# Altium footprint library CON_JST_.PcbLib: 30 footprints (part 2 of 2)
Each footprint in its own frame and in the unit in brackets; x right, y up, seen from the top. Pads: shape width x height; smd on the part's side, far side on the other; paste and mask are expansions set on the pad; w line width, h text height; cw(c..) or ccw(c..) is an arc to the next point about the centre after c.
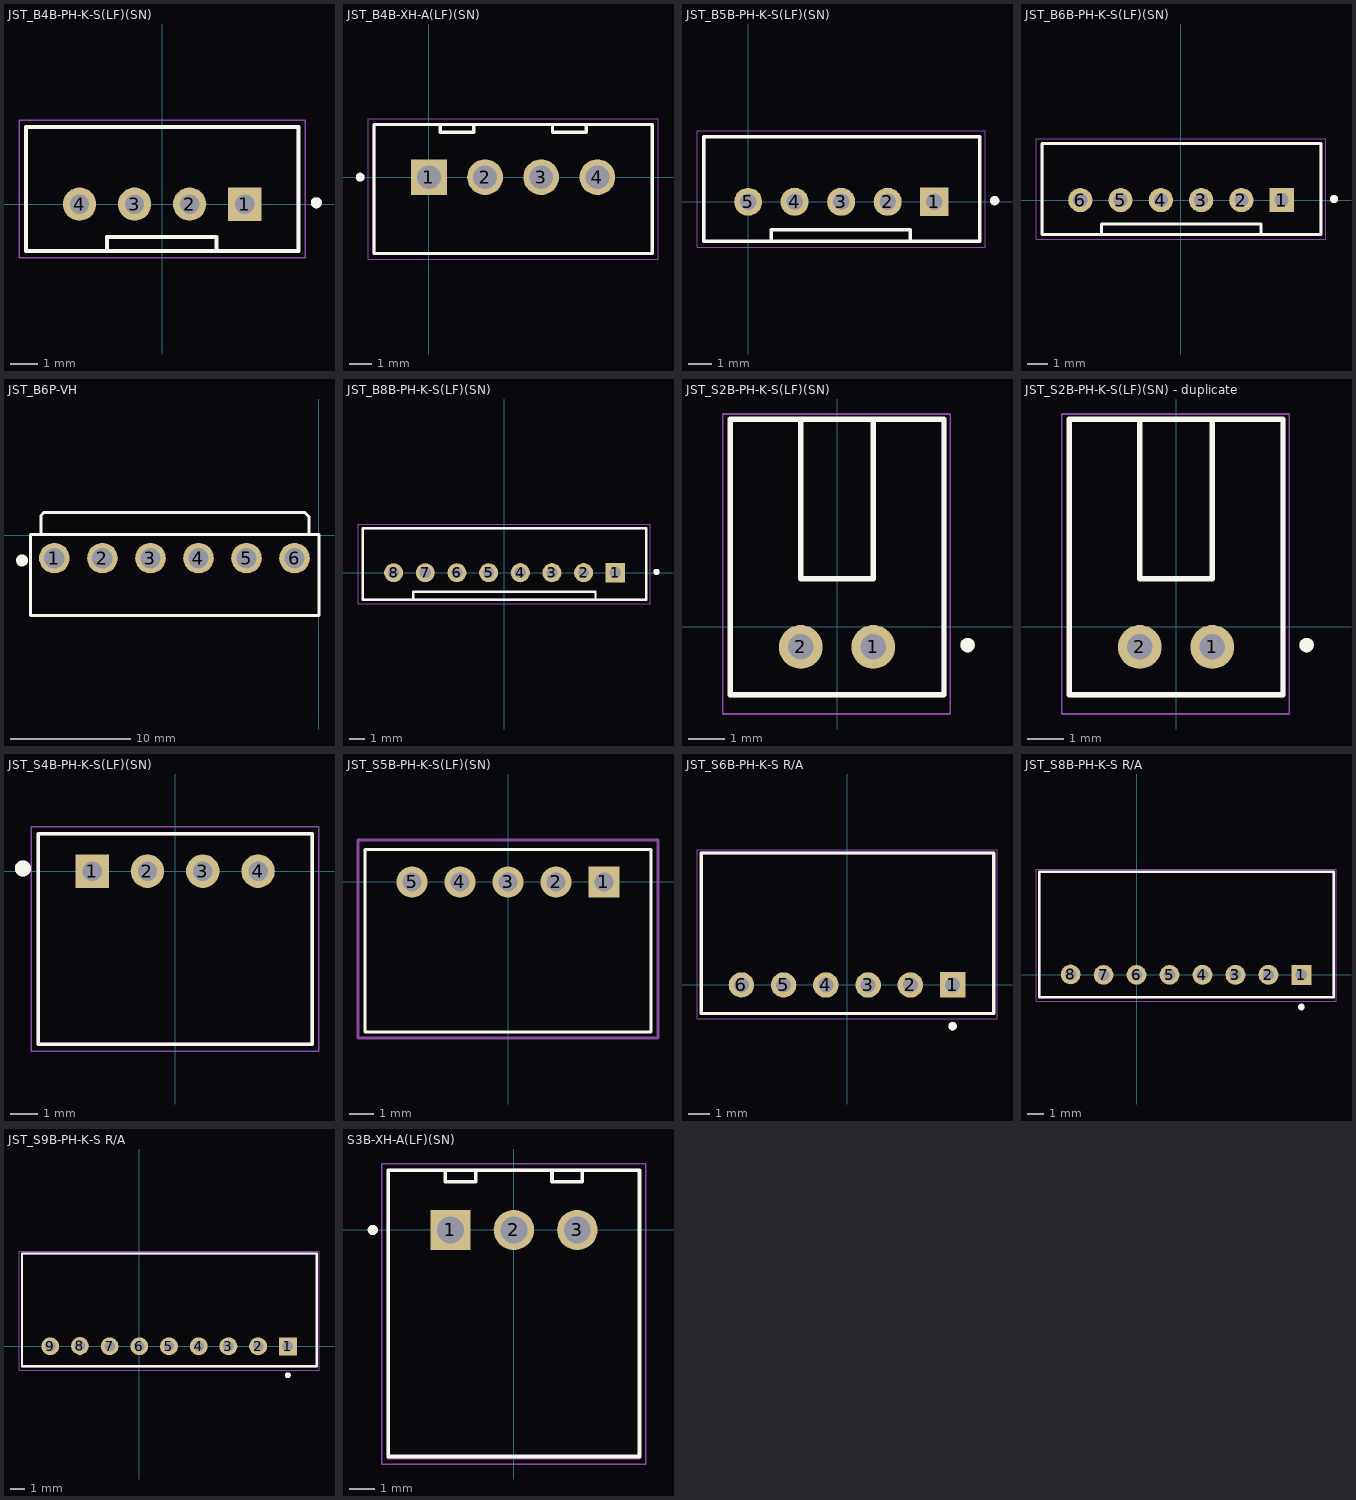
[diagram p1: the footprints below, top view; thin cyan lines are the x and y axes]

## JST_B4B-PH-K-S(LF)(SN) [mm]
pads (4):
  rect 1.208x1.208 hole 0.7: 1(3,0)
  round 1.208 hole 0.7: 2(1,0) 3(-1,0) 4(-3,0)
Top Overlay:
  circle w0.2: c5.6,0.05 r0.1
  lines w0.15: -2,-1.7 -2,-1.2 1.975,-1.2 1.975,-1.7 ; -4.95,-1.7 4.95,-1.7 4.95,2.8 -4.95,2.8 -4.95,-1.7
Mechanical 4:
  circle w0.2: c5.6,0.05 r0.1
  circle w0.2: c5.6,0.05 r0.1
  lines w0.127: -4.95,-1.7 -4.95,2.8 ; -4.95,-1.7 4.95,-1.7 ; -4.95,-1.7 -4.95,2.8 ; -4.95,-1.7 4.95,-1.7 ; -4.95,2.8 4.95,2.8 ; -4.95,2.8 4.95,2.8 ; 4.95,-1.7 4.95,2.8 ; 4.95,-1.7 4.95,2.8
Mechanical 16:
  lines w0.05: -5.2,-1.95 -5.2,3.05 5.2,3.05 5.2,-1.95 -5.2,-1.95
3D body: height 5, standoff -3, extent -3.297,-0.299 -2.7,0.3
3D body: height 5, standoff -3, extent 2.703,-0.299 3.3,0.3
3D body: height 5, standoff -3, extent 0.703,-0.299 1.3,0.3
3D body: height 5, standoff -3, extent -1.297,-0.299 -0.7,0.3
3D body: height 1.5, standoff 0.05, extent -4.9,-1.7 4.9,2.8
3D body: height 6, standoff 1.5, extent 4.7,-1.7 4.9,2.8
3D body: height 6, standoff 1.5, extent -4.9,2.6 4.9,2.8
3D body: height 6, standoff 1.5, extent 2,-1.7 4.9,-1.5
3D body: height 6, standoff 1.5, extent -4.9,-1.7 -2,-1.5
3D body: height 6, standoff 1.5, extent -4.9,-1.7 -4.7,2.8

## JST_B4B-XH-A(LF)(SN) [mm]
pads (4):
  rect 1.59x1.59 hole 1.06: 1(0,0)
  round 1.59 hole 1.06: 2(2.5,0) 3(5,0) 4(7.5,0)
Top Overlay:
  circle w0.2: c-3.06,0 r0.1
  lines w0.15: 0.5,2.35 0.5,2 2,2 2,2.35 ; 5.5,2.35 5.5,2 7,2 7,2.35 ; -2.45,-3.4 9.95,-3.4 9.95,2.35 -2.45,2.35 -2.45,-3.4
Mechanical 4:
  lines w0.127: -2.45,-3.4 9.95,-3.4 ; -2.45,-3.4 -2.45,2.35 ; -2.45,-3.4 9.95,-3.4 ; -2.45,-3.4 -2.45,2.35 ; -2.45,2.35 9.95,2.35 ; -2.45,2.35 9.95,2.35 ; 9.95,-3.4 9.95,2.35 ; 9.95,-3.4 9.95,2.35
Mechanical 16:
  lines w0.05: -2.7,-3.65 10.2,-3.65 10.2,2.6 -2.7,2.6 -2.7,-3.65
3D body: height 6, standoff 1.5, extent 9.6,-3.4 9.9,2.3
3D body: height 6, standoff 1.5, extent -2.4,-3.4 -2,2.3
3D body: height 6, standoff 1.5, extent -2.4,-3.4 9.9,-3
3D body: height 6, standoff 1.5, extent 7,2 9.9,2.3
3D body: height 6, standoff 1.5, extent -2.4,2 0.5,2.3
3D body: height 1.5, standoff 0.05, extent -2.4,-3.4 9.9,2.3
3D body: height 5, standoff -3, extent 7.004,-0.5 8,0.498
3D body: height 5, standoff -3, extent 4.504,-0.5 5.5,0.498
3D body: height 5, standoff -3, extent 2.004,-0.5 3,0.498
3D body: height 5, standoff -3, extent -0.496,-0.499 0.5,0.499
3D body: height 6, standoff 1.5, extent 2,2 5.5,2.3

## JST_B5B-PH-K-S(LF)(SN) [mm]
pads (5):
  rect 1.208x1.208 hole 0.7: 1(8,0)
  round 1.208 hole 0.7: 2(6,0) 3(4,0) 4(2,0)
  round 1.2 hole 0.7: 5(0,0)
Top Overlay:
  circle w0.2: c10.6,0.05 r0.1
  lines w0.15: 1,-1.7 1,-1.2 6.975,-1.2 6.975,-1.7 ; -1.9,-1.7 9.95,-1.7 9.95,2.8 -1.9,2.8 -1.9,-1.7
Mechanical 4:
  circle w0.2: c10.6,0.05 r0.1
  circle w0.2: c10.6,0.05 r0.1
  lines w0.127: -1.9,-1.7 -1.9,2.8 ; -1.9,-1.7 9.95,-1.7 ; -1.9,-1.7 -1.9,2.8 ; -1.9,-1.7 9.95,-1.7 ; -1.9,2.8 9.95,2.8 ; -1.9,2.8 9.95,2.8 ; 9.95,-1.7 9.95,2.8 ; 9.95,-1.7 9.95,2.8
Mechanical 16:
  lines w0.05: -2.2,-1.95 -2.2,3.05 10.2,3.05 10.2,-1.95 -2.2,-1.95
3D body: height 5, standoff -3, extent -0.298,-0.299 0.3,0.3
3D body: height 6, standoff 1.5, extent -1.9,-1.7 -1.7,2.8
3D body: height 5, standoff -3, extent 1.702,-0.299 2.3,0.3
3D body: height 5, standoff -3, extent 7.702,-0.299 8.3,0.3
3D body: height 5, standoff -3, extent 5.703,-0.299 6.3,0.3
3D body: height 5, standoff -3, extent 3.702,-0.299 4.3,0.3
3D body: height 1.5, standoff 0.05, extent -1.9,-1.7 9.9,2.8
3D body: height 6, standoff 1.5, extent 9.7,-1.7 9.9,2.8
3D body: height 6, standoff 1.5, extent -1.9,2.6 9.9,2.8
3D body: height 6, standoff 1.5, extent 7,-1.7 9.9,-1.5
3D body: height 6, standoff 1.5, extent -1.9,-1.7 1,-1.5

## JST_B6B-PH-K-S(LF)(SN) [mm]
pads (6):
  rect 1.208x1.208 hole 0.7: 1(5,0)
  round 1.208 hole 0.7: 2(3,0) 3(1,0) 4(-1,0)
  round 1.2 hole 0.7: 5(-3,0) 6(-5,0)
Top Overlay:
  circle w0.2: c7.6,0.05 r0.1
  lines w0.15: -3.95,-1.7 -3.95,-1.2 3.975,-1.2 3.975,-1.7 ; -6.9,-1.7 -6.9,2.8 6.95,2.8 6.95,-1.7 -6.9,-1.7
Mechanical 4:
  circle w0.2: c7.6,0.05 r0.1
  circle w0.2: c7.6,0.05 r0.1
  lines w0.127: -6.9,-1.7 6.95,-1.7 ; -6.9,-1.7 -6.9,2.8 ; -6.9,-1.7 6.95,-1.7 ; -6.9,-1.7 -6.9,2.8 ; -6.9,2.8 6.95,2.8 ; -6.9,2.8 6.95,2.8 ; 6.95,-1.7 6.95,2.8 ; 6.95,-1.7 6.95,2.8
Mechanical 16:
  lines w0.05: -7.2,-1.95 7.2,-1.95 7.2,3.05 -7.2,3.05 -7.2,-1.95
3D body: height 6, standoff 1.5, extent -6.85,-1.7 -3.95,-1.5
3D body: height 6, standoff 1.5, extent 4,-1.7 6.9,-1.5
3D body: height 6, standoff 1.5, extent -6.9,2.6 6.9,2.8
3D body: height 6, standoff 1.5, extent 6.7,-1.7 6.9,2.8
3D body: height 1.5, standoff 0.05, extent -6.9,-1.7 6.9,2.8
3D body: height 5, standoff -3, extent 0.703,-0.299 1.3,0.3
3D body: height 5, standoff -3, extent 2.703,-0.299 3.3,0.3
3D body: height 5, standoff -3, extent 4.703,-0.299 5.3,0.3
3D body: height 5, standoff -3, extent -1.297,-0.299 -0.7,0.3
3D body: height 6, standoff 1.5, extent -6.9,-1.7 -6.7,2.8
3D body: height 5, standoff -3, extent -3.297,-0.299 -2.7,0.3
3D body: height 5, standoff -3, extent -5.297,-0.299 -4.7,0.3

## JST_B6P-VH [mm]
pads (6):
  round 2.55 hole 1.7: 1(-22.007,-1.905) 2(-18.007,-1.905) 3(-14.007,-1.905) 4(-10.007,-1.905) 5(-6.007,-1.905) 6(-2.007,-1.905)
Top Overlay:
  circle w0.5: c-24.707,-2.105 r0.25
  lines w0.25: -23.132,0.12 -23.132,1.645 -22.872,1.905 -1.168,1.905 -0.823,1.56 -0.823,0.07 ; -13.007,0.07 -12.982,0.045 ; -24.007,-6.705 0.03,-6.705 0.03,0.045 -24.007,0.045 -24.007,-6.705
3D body "User Library-user_library-b6p-vh_asm.STEP": height 10.9, standoff -3.7, extent -23.678,-6.553 -0.248,1.947

## JST_B8B-PH-K-S(LF)(SN) [mm] "Connector Header Through Hole 8 position 0.079\" (2.00mm)"
height 6
pads (8):
  rect 1.208x1.208 hole 0.7: 1(7,0)
  round 1.208 hole 0.7: 2(5,0) 3(3,0) 4(1,0)
  round 1.2 hole 0.7: 5(-1,0) 6(-3,0) 7(-5,0) 8(-7,0)
Top Overlay:
  circle w0.2: c9.6,0.05 r0.1
  lines w0.15: -5.75,-1.7 -5.75,-1.2 5.75,-1.2 5.75,-1.7 ; -8.95,-1.7 -8.95,2.8 8.95,2.8 8.95,-1.7 -8.95,-1.7
Mechanical 4:
  circle w0.2: c9.6,0.05 r0.1
  circle w0.2: c9.6,0.05 r0.1
  lines w0.127: 8.95,-1.7 -8.9,-1.7 8.95,-1.7 ; 8.95,-1.7 8.95,2.8 ; 8.95,-1.7 8.95,2.8 ; 8.95,2.8 -8.9,2.8 8.95,2.8
Mechanical 16:
  lines w0.05: -9.25,-1.95 9.2,-1.95 9.2,3.05 -9.25,3.05 -9.25,-1.95
3D body "User Library-b8b-ph-ks.STEP": height 6.05, standoff -2.95, extent -8.95,-1.75 8.95,2.75

## JST_S2B-PH-K-S(LF)(SN) [mm] "Connector Header Through Hole, Right Angle 2 position 0.079\" (2.00mm)"
height 4.8
pads (2):
  round 1.208 hole 0.7: 1(1,-0.55) 2(-1,-0.55)
Top Overlay:
  circle w0.2: c3.6,-0.5 r0.1
  lines w0.15: -1,5.725 -1,1.325 1,1.325 1,5.725 ; -2.95,-1.875 2.95,-1.875 2.95,5.725 -2.95,5.725 -2.95,-1.875
Mechanical 4:
  circle w0.2: c3.6,-0.5 r0.1
  circle w0.2: c3.6,-0.5 r0.1
  lines w0.127: -2.95,-1.875 -2.95,5.725 ; -2.95,-1.875 2.95,-1.875 ; -2.95,-1.875 -2.95,5.725 ; -2.95,-1.875 2.95,-1.875 ; -2.95,5.725 2.95,5.725 ; -2.95,5.725 2.95,5.725 ; 2.95,-1.875 2.95,5.725 ; 2.95,-1.875 2.95,5.725
Mechanical 16:
  lines w0.05: -3.15,-2.4 -3.15,5.875 3.125,5.875 3.125,-2.4 -3.15,-2.4
3D body "User Library-S2B.STEP": height 4.82, standoff -3.38, extent -3,-1.875 2.9,5.725

## JST_S2B-PH-K-S(LF)(SN) - duplicate [mm] "Connector Header Through Hole, Right Angle 2 position 0.079\" (2.00mm)"
height 4.8
pads (2):
  round 1.208 hole 0.7: 1(1,-0.55) 2(-1,-0.55)
Top Overlay:
  circle w0.2: c3.6,-0.5 r0.1
  lines w0.15: -1,5.725 -1,1.325 1,1.325 1,5.725 ; -2.95,-1.875 2.95,-1.875 2.95,5.725 -2.95,5.725 -2.95,-1.875
Mechanical 4:
  circle w0.2: c3.6,-0.5 r0.1
  circle w0.2: c3.6,-0.5 r0.1
  lines w0.127: -2.95,-1.875 -2.95,5.725 ; -2.95,-1.875 2.95,-1.875 ; -2.95,-1.875 -2.95,5.725 ; -2.95,-1.875 2.95,-1.875 ; -2.95,5.725 2.95,5.725 ; -2.95,5.725 2.95,5.725 ; 2.95,-1.875 2.95,5.725 ; 2.95,-1.875 2.95,5.725
Mechanical 16:
  lines w0.05: -3.15,-2.4 -3.15,5.875 3.125,5.875 3.125,-2.4 -3.15,-2.4
3D body "User Library-S2B.STEP": height 4.82, standoff -3.38, extent -3,-1.875 2.9,5.725

## JST_S4B-PH-K-S(LF)(SN) [mm]
pads (4):
  rect 1.208x1.208 hole 0.7: 1(-3,0)
  round 1.208 hole 0.7: 2(-1,0) 3(1,0) 4(3,0)
Top Overlay:
  circle w0.3: c-5.5,0.1 r0.141
  lines w0.127: -4.95,-6.25 -4.95,1.35 4.95,1.35 4.95,-6.25 -4.95,-6.25
Mechanical 4:
  circle w0.3: c-5.5,0.1 r0.141
  circle w0.3: c-5.5,0.1 r0.141
  lines w0.127: -4.95,-6.25 4.95,-6.25 ; -4.95,-6.25 -4.95,1.35 ; -4.95,-6.25 4.95,-6.25 ; -4.95,-6.25 -4.95,1.35 ; -4.95,1.35 4.95,1.35 ; -4.95,1.35 4.95,1.35 ; 4.95,-6.25 4.95,1.35 ; 4.95,-6.25 4.95,1.35
Mechanical 16:
  lines w0.05: -5.2,-6.5 5.2,-6.5 5.2,1.6 -5.2,1.6 -5.2,-6.5
3D body "S4B-PH-K-S.stp": height 4.8, standoff -3.4, extent -4.875,-6.25 5.025,1.35

## JST_S5B-PH-K-S(LF)(SN) [mm]
pads (5):
  rect 1.308x1.308 hole 0.8: 1(4,0)
  round 1.308 hole 0.8: 2(2,0) 3(0,0) 4(-2,0) 5(-4,0)
Top Overlay:
  lines w0.127: -5.95,-6.25 -5.95,1.35 5.95,1.35 5.95,-6.25 -5.95,-6.25
Mechanical 16:
  lines w0.127: -6.25,-6.5 6.25,-6.5 6.25,1.75 -6.25,1.75 -6.25,-6.5
3D body "JST S5B-PH-K-S .STEP": height 4.9, standoff -1.9, extent -5.975,-6.675 5.925,0.925

## JST_S6B-PH-K-S R/A [mm] "CONN PH SERIES HEADER R/A 6POS 2MM"
height 4.8
pads (6):
  rect 1.208x1.208 hole 0.7: 1(5,0)
  round 1.208 hole 0.7: 2(3,0) 3(1,0) 4(-1,0)
  round 1.2 hole 0.7: 5(-3,0) 6(-5,0)
Top Overlay:
  circle w0.2: c5,-1.95 r0.1
  lines w0.15: -6.9,-1.35 -6.9,6.25 6.95,6.25 6.95,-1.35 -6.9,-1.35
Mechanical 4:
  circle w0.2: c5,-1.95 r0.1
  circle w0.2: c5,-1.95 r0.1
  lines w0.127: -6.9,-1.35 6.95,-1.35 ; -6.9,-1.35 -6.9,6.25 ; -6.9,-1.35 6.95,-1.35 ; -6.9,-1.35 -6.9,6.25 ; -6.9,6.25 6.95,6.25 ; -6.9,6.25 6.95,6.25 ; 6.95,-1.35 6.95,6.25 ; 6.95,-1.35 6.95,6.25
Mechanical 16:
  lines w0.05: -7.1,-1.6 7.1,-1.6 7.1,6.4 -7.1,6.4 -7.1,-1.6
3D body "S6B-PH-K-S.STEP": height 4.85, standoff -3.35, extent -6.95,-1.35 6.95,6.25

## JST_S8B-PH-K-S R/A [mm] "CONN PH SERIES HEADER R/A 8POS 2MM"
height 4.8
pads (8):
  rect 1.208x1.208 hole 0.7: 1(10,0)
  round 1.208 hole 0.7: 2(8,0) 3(6,0) 4(4,0)
  round 1.2 hole 0.7: 5(2,0) 6(0,0) 7(-2,0) 8(-4,0.025)
Top Overlay:
  circle w0.2: c10,-1.95 r0.1
  lines w0.15: -5.9,-1.35 -5.9,6.25 11.95,6.25 11.95,-1.35 -5.9,-1.35
Mechanical 4:
  circle w0.2: c10,-1.95 r0.1
  circle w0.2: c10,-1.95 r0.1
  lines w0.127: -5.9,-1.35 11.95,-1.35 ; -5.9,-1.35 -5.9,6.25 ; -5.9,-1.35 11.95,-1.35 ; -5.9,-1.35 -5.9,6.25 ; -5.9,6.25 11.95,6.25 ; -5.9,6.25 11.95,6.25 ; 11.95,-1.35 11.95,6.25 ; 11.95,-1.35 11.95,6.25
Mechanical 16:
  lines w0.05: -6.1,-1.6 12.1,-1.6 12.1,6.4 -6.1,6.4 -6.1,-1.6
3D body "User Library-PCB HEADER (JST SxB-PH-K-S (RIGHT ANGLE)).STEP": height 4.9, standoff -1.9, extent -6,-0.675 11.9,6.925

## JST_S9B-PH-K-S R/A [mm] "CONN HEADER R/A 9POS 2MM"
height 4.8
pads (9):
  rect 1.208x1.208 hole 0.7: 1(10,0)
  round 1.208 hole 0.7: 2(8,0) 3(6,0) 4(4,0)
  round 1.2 hole 0.7: 5(2,0) 6(0,0) 7(-2,0) 8(-4,0.025) 9(-6,0)
Top Overlay:
  circle w0.2: c10,-1.95 r0.1
  lines w0.15: -7.9,-1.35 11.95,-1.35 11.95,6.25 -7.9,6.25 -7.9,-1.35
Mechanical 4:
  circle w0.2: c10,-1.95 r0.1
  circle w0.2: c10,-1.95 r0.1
  lines w0.127: -7.9,-1.35 -7.9,6.25 ; -7.9,-1.35 11.95,-1.35 ; -7.9,-1.35 -7.9,6.25 ; -7.9,-1.35 11.95,-1.35 ; -7.9,6.25 11.95,6.25 ; -7.9,6.25 11.95,6.25 ; 11.95,-1.35 11.95,6.25 ; 11.95,-1.35 11.95,6.25
Mechanical 16:
  lines w0.05: -8.1,-1.6 -8.1,6.4 12.1,6.4 12.1,-1.6 -8.1,-1.6
3D body "S9B-PH-KL.stp": height 4.8, standoff -3.4, extent -7.975,-1.15 11.925,6.45

## S3B-XH-A(LF)(SN) [mm] "CONN HEADER R/A 3POS 2.5MM"
pads (3):
  rect 1.59x1.59 hole 1.06: 1(-2.5,0.001)
  round 1.59 hole 1.06: 2(0,0.001) 3(2.5,0.001)
Top Overlay:
  circle w0.2: c-5.56,0.001 r0.1
  lines w0.15: -2.7,2.35 -2.7,1.9 -1.5,1.9 -1.5,2.351 ; 1.5,2.35 1.5,1.9 2.7,1.9 2.7,2.351 ; -4.95,-8.925 -4.95,2.351 4.95,2.351 4.95,-8.925 -4.95,-8.925
Mechanical 4:
  lines w0.127: -4.95,2.351 -4.95,-8.95 4.95,-8.95 4.95,2.351 ; -4.95,2.351 4.95,2.351 ; -4.95,2.351 -4.95,-8.975 4.95,-8.975 4.95,2.351 ; -4.95,2.351 4.95,2.351
Mechanical 16:
  lines w0.05: -5.2,-9.225 -5.2,2.601 5.2,2.601 5.2,-9.225 -5.2,-9.225
3D body "S3B-XH-A-(LF)(SN).STEP": height 6.15, standoff -3.4, extent -4.95,-9.125 4.95,2.375